# Altium schematic symbol library TST10H120CW.SchLib: 1 symbol
Pins are listed as number, name and electrical type; pins without a type are passive.

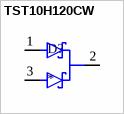
[diagram p0: symbol TST10H120CW]

## TST10H120CW
designator D?
10A 120V Trench Schottky; MP: TST10H120CW; MF: Taiwan Semiconductor; Check_prices: https://www.snapeda.com/parts/TST10H120CW/Taiwan+Semiconductor/view-part/?ref=eda; Purchase-URL: https://pricing.snapeda.com/search/part/TST10H120CW/?ref=eda; Value: *; SnapEDA_Link: https://www.snapeda.com/parts/TST10H120CW/Taiwan+Semiconductor/view-part/?ref=snap; Availability: In Stock; Price: None; Package: TO-220AB Taiwan Semiconductor
footprint TO254P1050X459X2020-3
pins: 1 A1, 2 C, 3 A2